# Altium integrated library ABS06-32.768KHZ-1-T.IntLib: 1 symbol
Pins are listed as number, name and electrical type; pins without a type are passive.

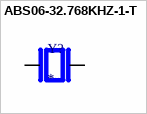
[diagram p0: symbol ABS06-32.768KHZ-1-T]

## ABS06-32.768KHZ-1-T
designator Y?
32.768 kHz Â±10ppm Crystal 12.5pF 90 kOhms 2-SMD, No Lead; MF: Abracon; MP: ABS06-32.768KHZ-1-T; Check_prices: https://www.snapeda.com/parts/ABS06-32.768KHZ-1-T/Abracon+LLC/view-part/?ref=eda; SnapEDA_Link: https://www.snapeda.com/parts/ABS06-32.768KHZ-1-T/Abracon+LLC/view-part/?ref=snap; Price: None; Availability: In Stock; Value: *; Package: SMD-2 Abracon LLC; Purchase-URL: https://pricing.snapeda.com/search/part/ABS06-32.768KHZ-1-T/?ref=eda
footprint XTAL_ABS06-32.768KHZ-1-T
pins: 1, 2